# Altium schematic symbol library 1_2V_Supply.SchLib: 11 symbols
Pins are listed as number, name and electrical type; pins without a type are passive.

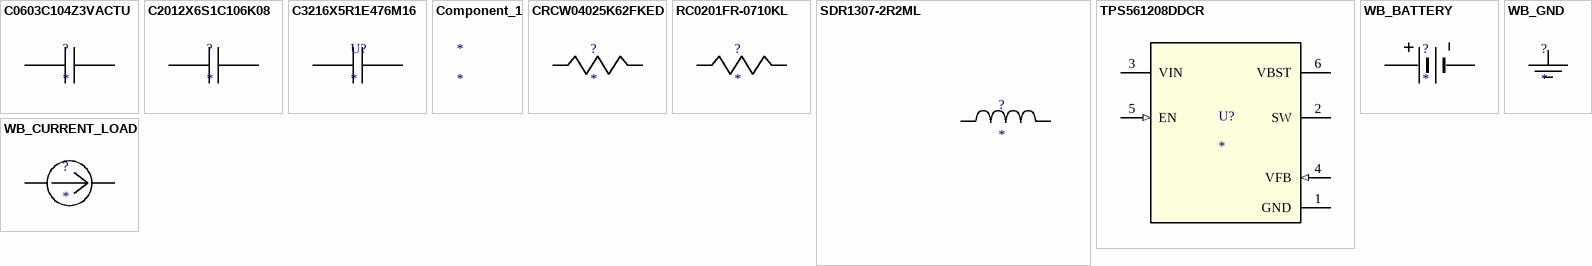
[diagram p0: symbols C0603C104Z3VACTU to WB_GND]

## C0603C104Z3VACTU
designator ?
Imported; Manufacturer_Part_Number: C0603C104Z3VACTU; Vendor: Kemet; Manufacturer_Name: Kemet; RefDes: RefDes; TYPE: TYPE; Value: Value
footprint 0603
pins: 1, 2

## C2012X6S1C106K08
designator ?
Imported; Manufacturer_Part_Number: C2012X6S1C106K085AC; Vendor: TDK; Manufacturer_Name: TDK; RefDes: RefDes; TYPE: TYPE; Value: Value
footprint 0805
pins: 1, 2

## C3216X5R1E476M16
designator U?
Imported; Manufacturer_Part_Number: C3216X5R1E476M160AC; Manufacturer_Name: TDK; Cap_F: 0.000047; VDC_V: 25; RoHS: Y; MountType: SMT; RefDes: RefDes; TYPE: TYPE; Value: Value
footprint 1206
pins: 1, 2

## Component_1
designator *

## CRCW04025K62FKED
designator ?
Imported; Manufacturer_Part_Number: CRCW04025K62FKED; Vendor: Vishay-Dale; Manufacturer_Name: Vishay-Dale; RefDes: RefDes; TYPE: TYPE; Value: Value
footprint 0402
pins: 1, 2

## RC0201FR-0710KL
designator ?
Imported; Manufacturer_Part_Number: RC0201FR-0710KL; Manufacturer_Name: Yageo; Vendor: Yageo America; RefDes: RefDes; TYPE: TYPE; Value: Value
footprint 0201
pins: 1, 2

## SDR1307-2R2ML
designator ?
Imported; Manufacturer_Part_Number: SDR1307-2R2ML; Vendor: Bourns; Manufacturer_Name: Bourns; RefDes: RefDes; TYPE: TYPE; Value: Value
footprint SDR1307
pins: 1, 2

## TPS561208DDCR
designator U?
Imported; PartNumber: TPS561208DDCR; Manufacturer: Texas Instruments; RefDes: RefDes; TYPE: TYPE; Value: Value; Manufacturer_Part_Number: TPS561208DDCR; Manufacturer_Name: Texas Instruments
footprint DDC0006A
pins: 1 GND (power), 2 SW (power), 3 VIN (power), 4 VFB (in), 5 EN (in), 6 VBST (power)

## WB_BATTERY
designator ?
Imported; Manufacturer_Part_Number: WB_BATTERY; PowerPortType: POWER_GROUND; Value: Value; Manufacturer_Name: WB_BATTERY; RefDes: RefDes; TYPE: TYPE
pins: 1 +, 2 -

## WB_CURRENT_LOAD
designator ?
Imported; Manufacturer_Part_Number: WB_CURRENT_LOAD; PowerPortType: POWER_GROUND; Value: Value; Manufacturer_Name: WB_CURRENT_LOAD; RefDes: RefDes; TYPE: TYPE
pins: 1 +, 2 -

## WB_GND
designator ?
Imported; Manufacturer_Part_Number: WB_GND; PowerPortType: POWER_GROUND; Value: Value; Manufacturer_Name: WB_GND; RefDes: RefDes; TYPE: TYPE
pins: 1